# EAGLE library part TPS61232 (library texasinstruments)
Up to 96% Efficiency Synchronous Boost Converter 3.3 V to 5 V Power Conversion with 2.1 A Output Current Input Supply Voltage Supervisor with Adjustable Threshold/ Hysteresis Power Save Mode for Light Load Efficiency Load Disconnect During Shutdown Output Over Voltage Protection Programmable Soft Start Power Good Output Input Voltage Range: 2.3 V to 5.5 V Output Voltage Range: 2.5 V to 5.5 V 2 MHz Switching Frequency Output Capacitor Discharge (TPS61231) 3 mm × 3 mm × 0.9 mm SON Package
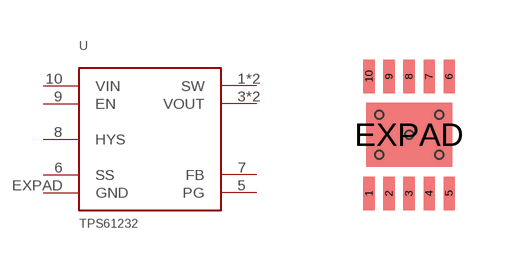
[diagram p0: symbol with the pads of S-PVSON-N10; footprint S-PVSON-N10]

Designator prefix -

## TPS61232  [S-PVSON-N10]
1  SW  pwr
2  SW  pwr
3  VOUT  pwr
4  VOUT  pwr
5  PG  out
6  SS
7  FB  in
8  HYS  out
9  EN  in
10  VIN  in
EXPAD  GND  pwr

## Footprint S-PVSON-N10 (pad centres in mm)
S-PVSON-N10
smd 0.28 x 0.825: 1 -1,-1.462; 2 -0.5,-1.462; 3 0,-1.462; 4 0.5,-1.462; 5 1,-1.462; 6 1,1.462; 7 0.5,1.462; 8 0,1.462; 9 -0.5,1.462; 10 -1,1.462
smd 2.15 x 1.6: EXPAD 0,0
hole 0.2 at -0.75,0.5
hole 0.2 at 0.75,0.5
hole 0.2 at 0.75,-0.5
hole 0.2 at -0.75,-0.5
hole 0.2 at 0,0